# Altium footprint library NetTroll.PcbLib: 63 footprints (part 4 of 4)
Each footprint in its own frame and in the unit in brackets; x right, y up, seen from the top. Pads: shape width x height; smd on the part's side, far side on the other; paste and mask are expansions set on the pad; w line width, h text height; cw(c..) or ccw(c..) is an arc to the next point about the centre after c.
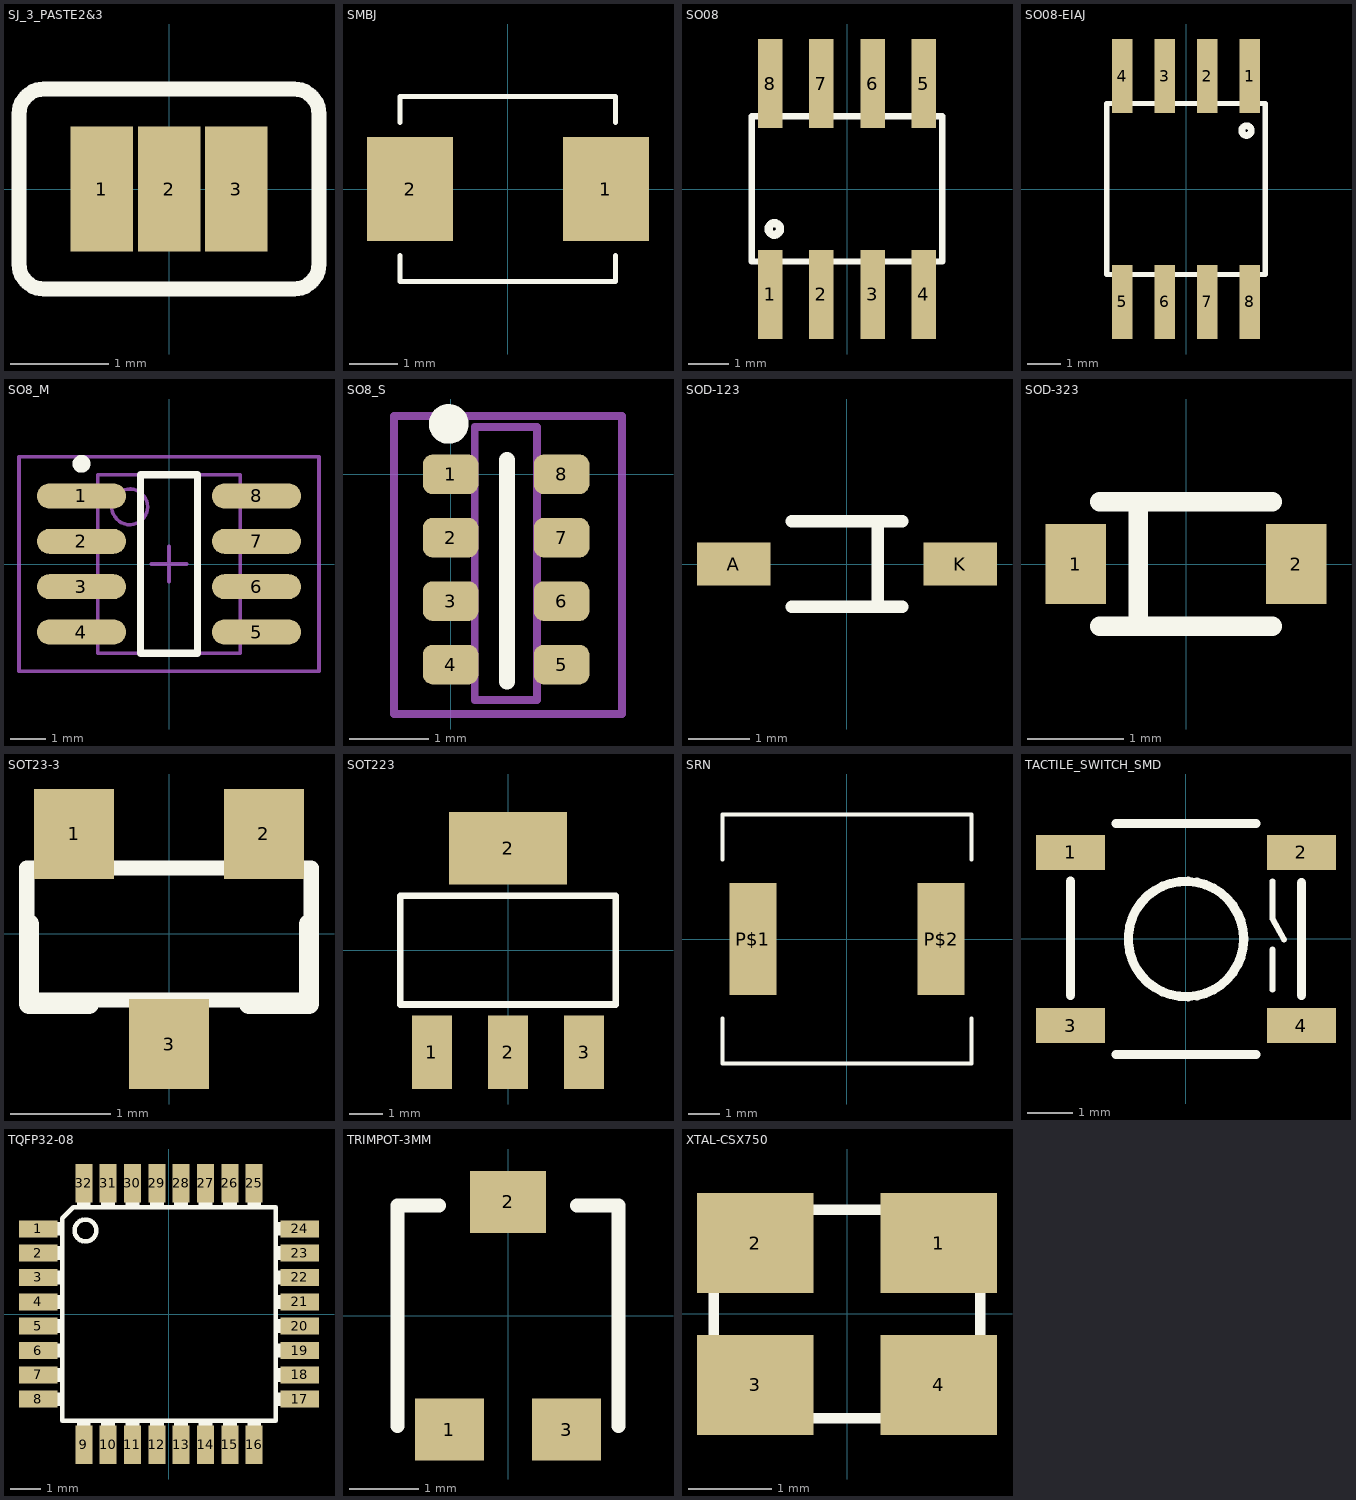
[diagram p3: the footprints below, top view; thin cyan lines are the x and y axes]

## SJ_3_PASTE2&3 [mm]
pads (3):
  rect 0.635x1.27 smd paste-0.838: 1(-0.685,0)
  rect 0.635x1.27 smd: 2(0,0) 3(0.685,0)
Top Overlay:
  lines w0.152: -1.524,-0.762 ccw(c-1.27,-0.762) -1.27,-1.016 1.27,-1.016 ccw(c1.27,-0.762) 1.524,-0.762 1.524,0.762 ccw(c1.27,0.762) 1.27,1.016 -1.27,1.016 ccw(c-1.27,0.762) -1.524,0.762 -1.524,-0.762
Top Paste:
  rectangle: 0.203,-0.635 0.559,0.635

## SMBJ [mm]
pads (2):
  rect 1.78x2.16 smd: 1(2.04,0) 2(-2.03,0)
Top Overlay:
  lines w0.102: -2.24,-1.385 -2.24,-1.92 2.24,-1.92 2.24,-1.385 ; -2.24,1.385 -2.24,1.92 2.24,1.92 2.24,1.385
3D body: height 2.45, standoff 0, extent -2.25,-1.925 2.25,1.925

## SO08 [mil]
pads (8):
  rect 24x87 smd: 1(-75,-103) 2(-25,-103) 3(25,-103) 4(75,-103) 5(75,103) 6(25,103) 7(-25,103) 8(-75,103)
Top Overlay:
  circle w8: c-71,-39 r5.65
  rectangle: 68,73 82,113
  rectangle: 18,73 32,113
  rectangle: -32,73 -18,113
  rectangle: -82,73 -68,113
  rectangle: 68,-113 82,-73
  rectangle: 18,-113 32,-73
  rectangle: -32,-113 -18,-73
  rectangle: -82,-113 -68,-73
  lines w6: -92.99,-70.98 -92.99,70.99 92.99,70.99 92.99,-70.98 -92.99,-70.98

## SO08-EIAJ [mil]
pads (8):
  rect 24x87 smd: 1(75,133) 2(25,133) 3(-25,133) 4(-75,133) 5(-75,-132) 6(-25,-132) 7(25,-132) 8(75,-132)
Top Overlay:
  circle w8: c71,69 r5.65
  region: -68,-102 -82,-102 -82,-142 -68,-142
  region: -18,-102 -32,-102 -32,-142 -18,-142
  region: 32,-102 18,-102 18,-142 32,-142
  region: 82,-102 68,-102 68,-142 82,-142
  region: -68,143 -82,143 -82,103 -68,103
  region: -18,143 -32,143 -32,103 -18,103
  region: 32,143 18,143 18,103 32,103
  region: 82,143 68,143 68,103 82,103
  lines w6: -92.99,-99.99 92.99,-99.99 92.99,100.98 -92.99,100.98 -92.99,-99.99

## SO8_M [mm] "SOIC, 8-Leads, Body 4.9x3.9mm, Pitch 1.27mm, IPC Low Density"
height 1.75
pads (8):
  oval 2.5x0.7 smd: 1(-2.45,1.905) 2(-2.45,0.635) 3(-2.45,-0.635) 4(-2.45,-1.905) 5(2.45,-1.905) 6(2.45,-0.635) 7(2.45,0.635) 8(2.45,1.905)
Top Overlay:
  circle w0.25: c-2.45,2.805 r0.125
  lines w0.2: -0.8,-2.5 0.8,-2.5 0.8,2.5 -0.8,2.5 -0.8,-2.5
Mechanical 13:
  circle w0.1: c-1.1,1.6 r0.5
  lines w0.1: -2,-2.5 2,-2.5 2,2.5 -2,2.5 -2,-2.5
Mechanical 15:
  lines w0.1: -0.5,0 0.5,0 ; 0,-0.5 0,0.5 ; -4.2,-3 4.2,-3 4.2,3 -4.2,3 -4.2,-3
3D body: height 1.75, standoff 0, extent -2,-2.5 2,2.5

## SO8_S [mm] "SOIC, 8-Leads, Body 4.9x3.9mm, Pitch 1.27mm, IPC Low Density"
height 1.75
pads (8):
  rrect50% 0.7x0.5 smd: 1(0,0) 2(0,-0.8) 3(0,-1.6) 4(0,-2.4) 5(1.4,-2.4) 6(1.4,-1.6) 7(1.4,-0.8) 8(1.4,0)
Top Overlay:
  circle w0.25: c-0.023,0.635 r0.125
  lines w0.2: 0.711,-2.616 0.711,0.178
Mechanical 13:
  lines w0.1: 0.305,-2.845 0.305,0.595 1.092,0.595 1.092,-2.845 0.305,-2.845
Mechanical 15:
  lines w0.1: -0.711,-3.023 -0.711,0.737 2.159,0.737 2.159,-3.023 -0.711,-3.023
3D body: height 0.53, standoff 0, extent -0.05,-2.875 1.425,0.575

## SOD-123 [mm]
pads (2):
  rect 1.2x0.7 smd: A(-1.85,0) K(1.85,0)
Top Overlay:
  lines w0.203: -0.9,-0.7 0.5,-0.7 ; -0.9,0.7 0.5,0.7 ; 0.9,-0.7 0.5,-0.7 ; 0.9,0.7 0.5,0.7 ; 0.5,-0.7 0.5,0.7
3D body: height 1.35, standoff 0, extent -1.25,-0.75 1.25,0.75
3D body: height 1.36, standoff 0, extent 0.412,-0.725 0.587,0.725

## SOD-323 [mm]
pads (2):
  rect 0.63x0.83 smd: 1(-1.15,0) 2(1.15,0)
Top Overlay:
  lines w0.203: -0.9,-0.65 -0.5,-0.65 ; -0.9,0.65 -0.5,0.65 ; 0.9,-0.65 -0.5,-0.65 ; 0.9,0.65 -0.5,0.65 ; -0.5,-0.65 -0.5,0.65

## SOT23-3 [mm]
pads (3):
  rect 0.8x0.9 smd: 1(-0.95,1) 2(0.95,1) 3(0,-1.1)
Top Overlay:
  lines w0.152: -1.422,-0.66 -1.422,0.66 1.422,0.66 1.422,-0.66 -1.422,-0.66
  lines w0.203: -1.4,0.1 -1.4,-0.7 -0.8,-0.7 ; 0.8,-0.7 1.4,-0.7 1.4,0.1

## SOT223 [mil]
pads (4):
  rect 48x88 smd: 1(-91,-122) 2(0,-122) 3(91,-122)
  rect 141.73x86.61 smd: 2(0,122.01)
Top Overlay:
  lines w8: -129,-65 -129,65 129,65 129,-65 -129,-65

## SRN [mm]
pads (2):
  rect 1.5x3.6 smd: P$1(-3.025,0) P$2(3.025,0)
Top Overlay:
  lines w0.127: -4,-2.55 -4,-4 4,-4 4,-2.55 ; -4,2.55 -4,4 4,4 4,2.55

## TACTILE_SWITCH_SMD [mil]
pads (4):
  rect 60x30 smd: 1(-100,75) 2(100,75) 3(-100,-75) 4(100,-75)
Top Overlay:
  circle w8: c0,0 r50
  lines w5: 75,-43.9 75,-9.05 ; 75,50 75,17.52 85.04,-0.39
  lines w8: -100,-48.82 -100,50 ; -60.63,-100 60.63,-100 ; -60.63,100 60.63,100 ; 100,-48.82 100,48.82
3D body: height 70.87, standoff 0, extent -103.35,-108.27 103.35,103.35
3D body: height 122.05, standoff 0, extent -58.58,-58.93 59.06,58.94

## TQFP32-08 [mil]
pads (32):
  rect 50x22 smd: 1(-169,110.24) 2(-169,78.74) 3(-169,47.25) 4(-169,15.75) 5(-169,-15.75) 6(-169,-47.24) 7(-169,-78.74) 8(-169,-110.24) 17(169,-110.24) 18(169,-78.74) 19(169,-47.24) 20(169,-15.75) 21(169,15.75) 22(169,47.25) 23(169,78.74) 24(169,110.24)
  rect 22x50 smd: 9(-110.23,-169) 10(-78.74,-169) 11(-47.24,-169) 12(-15.74,-169) 13(15.75,-169) 14(47.25,-169) 15(78.74,-169) 16(110.24,-169) 25(110.24,169) 26(78.74,169) 27(47.25,169) 28(15.75,169) 29(-15.74,169) 30(-47.24,169) 31(-78.74,169) 32(-110.23,169)
Top Overlay:
  circle w6: c-108,108 r14.14
  rectangle: -179,101.24 -140,119.24
  rectangle: -179,69.74 -140,87.74
  rectangle: -179,38.25 -140,56.25
  rectangle: -179,6.75 -140,24.75
  rectangle: -179,-24.75 -140,-6.75
  rectangle: -179,-56.24 -140,-38.24
  rectangle: -179,-87.74 -140,-69.74
  rectangle: -179,-119.24 -140,-101.24
  rectangle: -119.23,-179 -101.23,-140
  rectangle: -87.74,-179 -69.74,-140
  rectangle: -56.24,-179 -38.24,-140
  rectangle: -24.74,-179 -6.74,-140
  rectangle: 6.75,-179 24.75,-140
  rectangle: 38.25,-179 56.25,-140
  rectangle: 69.74,-179 87.74,-140
  rectangle: 101.24,-179 119.24,-140
  rectangle: 140,-119.24 179,-101.24
  rectangle: 140,-87.74 179,-69.74
  rectangle: 140,-56.24 179,-38.24
  rectangle: 140,-24.75 179,-6.75
  rectangle: 140,6.75 179,24.75
  rectangle: 140,38.25 179,56.25
  rectangle: 140,69.74 179,87.74
  rectangle: 140,101.24 179,119.24
  rectangle: 101.24,140 119.24,179
  rectangle: 69.74,140 87.74,179
  rectangle: 38.25,140 56.25,179
  rectangle: 6.75,140 24.75,179
  rectangle: -24.74,140 -6.74,179
  rectangle: -56.24,140 -38.24,179
  rectangle: -87.74,140 -69.74,179
  rectangle: -119.23,140 -101.23,179
  lines w6: -137.99,-137.99 138,-137.99 138,137.99 -124.01,137.99 -137.99,124.02 -137.99,-137.99

## TRIMPOT-3MM [mm]
pads (3):
  rect 1x0.9 smd: 1(-0.85,-1.65) 3(0.85,-1.65)
  rect 1.1x0.9 smd: 2(0,1.65)
Top Overlay:
  lines w0.203: -1.6,-1.6 -1.6,1.6 -1,1.6 ; 1,1.6 1.6,1.6 1.6,-1.6

## XTAL-CSX750 [mm]
pads (4):
  rect 1.4x1.2 smd: 1(1.1,0.85) 2(-1.1,0.85) 3(-1.1,-0.85) 4(1.1,-0.85)
Top Overlay:
  lines w0.127: -1.6,-1 -1.6,1 ; -1.5,-1.25 1.5,-1.25 ; -1.5,1.25 1.5,1.25 ; 1.6,-1 1.6,1